# Altium footprint library surfacemountresarray.PcbLib: 3 footprints
Each footprint in its own frame and in the unit in brackets; x right, y up, seen from the top. Pads: shape width x height; smd on the part's side, far side on the other; paste and mask are expansions set on the pad; w line width, h text height; cw(c..) or ccw(c..) is an arc to the next point about the centre after c.
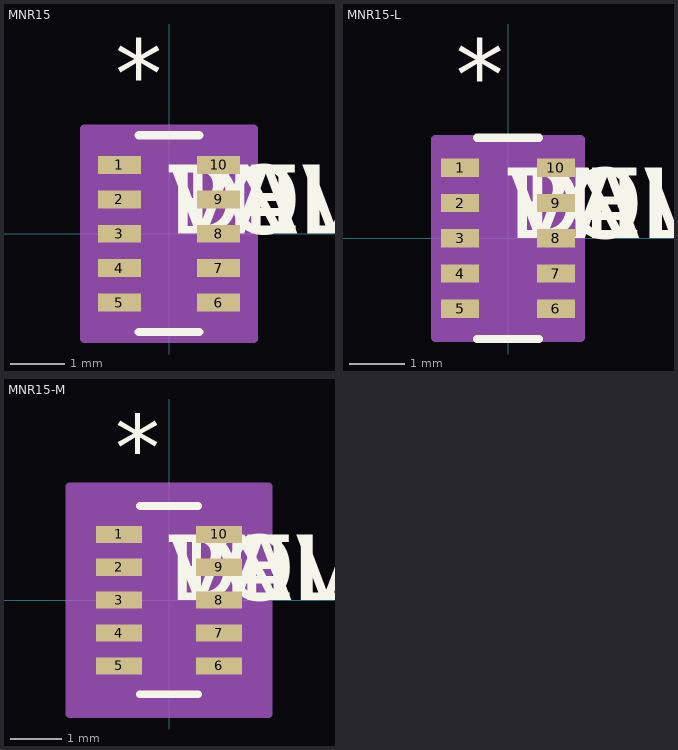
[diagram p0: the footprints below, top view; thin cyan lines are the x and y axes]

## MNR15 [mil]
pads (10):
  rect 31x13 smd paste+0 mask+0: 1(-36,50) 2(-36,25) 3(-36,0) 4(-36,-25) 5(-36,-50) 6(36,-50) 7(36,-25) 8(36,0) 9(36,25) 10(36,50)
Top Overlay:
  lines w6: -22,-71.5 22,-71.5 ; -22,71.5 22,71.5
  text "*" at -39,91.5 h50
  text "PN" at 0,0 h50
  text "DEV" at 0,0 h50
  text "VAL" at 0,0 h50
  text "TOL" at 0,0 h50
Mechanical 13:
  lines w0: -17,-43.5 ccw(c-17,-37.5) -17,-31.5 ; -17,-18.5 ccw(c-17,-12.5) -17,-6.5 ; -17,6.5 ccw(c-17,12.5) -17,18.5 ; -17,31.5 ccw(c-17,37.5) -17,43.5 ; 17,-43.5 cw(c17,-37.5) 17,-31.5 ; 17,-18.5 cw(c17,-12.5) 17,-6.5 ; 17,6.5 cw(c17,12.5) 17,18.5 ; 17,31.5 cw(c17,37.5) 17,43.5
  lines w1: -17,-43.5 -17,-56.5 -17,-66.5 17,-66.5 17,-56.5 17,-43.5 ; -17,-31.5 -17,-18.5 ; -17,-6.5 -17,6.5 ; -17,18.5 -17,31.5 ; -17,43.5 -17,56.5 -17,66.5 17,66.5 17,56.5 17,43.5 ; 17,-31.5 17,-18.5 ; 17,-6.5 17,6.5 ; 17,18.5 17,31.5
  text "*" at -7,76.5 h50
  text "RefDes2" at 0,0 h50
Mechanical 15:
  region: 61.5,-76.5 -61.5,-76.5 -61.5,76.5 61.5,76.5
  region: 17,-66.5 -17,-66.5 -17,66.5 17,66.5
  lines w6: -61.5,-76.5 -61.5,76.5 61.5,76.5 61.5,-76.5 -61.5,-76.5
3D body: height 10, standoff 0, extent 0,0 10,10

## MNR15-L [mil]
pads (10):
  rect 27x13 smd paste+0 mask+0: 1(-34,50) 2(-34,25) 3(-34,0) 4(-34,-25) 5(-34,-50) 6(34,-50) 7(34,-25) 8(34,0) 9(34,25) 10(34,50)
Top Overlay:
  lines w6: -22,-71.5 22,-71.5 ; -22,71.5 22,71.5
  text "*" at -37,91.5 h50
  text "PN" at 0,0 h50
  text "DEV" at 0,0 h50
  text "VAL" at 0,0 h50
  text "TOL" at 0,0 h50
Mechanical 13:
  lines w0: -17,-43.5 ccw(c-17,-37.5) -17,-31.5 ; -17,-18.5 ccw(c-17,-12.5) -17,-6.5 ; -17,6.5 ccw(c-17,12.5) -17,18.5 ; -17,31.5 ccw(c-17,37.5) -17,43.5 ; 17,-43.5 cw(c17,-37.5) 17,-31.5 ; 17,-18.5 cw(c17,-12.5) 17,-6.5 ; 17,6.5 cw(c17,12.5) 17,18.5 ; 17,31.5 cw(c17,37.5) 17,43.5
  lines w1: -17,-43.5 -17,-56.5 -17,-66.5 17,-66.5 17,-56.5 17,-43.5 ; -17,-31.5 -17,-18.5 ; -17,-6.5 -17,6.5 ; -17,18.5 -17,31.5 ; -17,43.5 -17,56.5 -17,66.5 17,66.5 17,56.5 17,43.5 ; 17,-31.5 17,-18.5 ; 17,-6.5 17,6.5 ; 17,18.5 17,31.5
  text "*" at -7,76.5 h50
  text "RefDes2" at 0,0 h50
Mechanical 15:
  region: 51.5,-70.5 -51.5,-70.5 -51.5,70.5 51.5,70.5
  region: 17,-66.5 -17,-66.5 -17,66.5 17,66.5
  lines w6: -51.5,-70.5 -51.5,70.5 51.5,70.5 51.5,-70.5 -51.5,-70.5
3D body: height 10, standoff 0, extent 0,0 10,10

## MNR15-M [mil]
pads (10):
  rect 35x13 smd paste+0 mask+0: 1(-38,50) 2(-38,25) 3(-38,0) 4(-38,-25) 5(-38,-50) 6(38,-50) 7(38,-25) 8(38,0) 9(38,25) 10(38,50)
Top Overlay:
  lines w6: -22,-71.5 22,-71.5 ; -22,71.5 22,71.5
  text "*" at -41,91.5 h50
  text "PN" at 0,0 h50
  text "DEV" at 0,0 h50
  text "VAL" at 0,0 h50
  text "TOL" at 0,0 h50
Mechanical 13:
  lines w0: -17,-43.5 ccw(c-17,-37.5) -17,-31.5 ; -17,-18.5 ccw(c-17,-12.5) -17,-6.5 ; -17,6.5 ccw(c-17,12.5) -17,18.5 ; -17,31.5 ccw(c-17,37.5) -17,43.5 ; 17,-43.5 cw(c17,-37.5) 17,-31.5 ; 17,-18.5 cw(c17,-12.5) 17,-6.5 ; 17,6.5 cw(c17,12.5) 17,18.5 ; 17,31.5 cw(c17,37.5) 17,43.5
  lines w1: -17,-43.5 -17,-56.5 -17,-66.5 17,-66.5 17,-56.5 17,-43.5 ; -17,-31.5 -17,-18.5 ; -17,-6.5 -17,6.5 ; -17,18.5 -17,31.5 ; -17,43.5 -17,56.5 -17,66.5 17,66.5 17,56.5 17,43.5 ; 17,-31.5 17,-18.5 ; 17,-6.5 17,6.5 ; 17,18.5 17,31.5
  text "*" at -7,76.5 h50
  text "RefDes2" at 0,0 h50
Mechanical 15:
  region: 75.5,-86.5 -75.5,-86.5 -75.5,86.5 75.5,86.5
  region: 17,-66.5 -17,-66.5 -17,66.5 17,66.5
  lines w6: -75.5,-86.5 -75.5,86.5 75.5,86.5 75.5,-86.5 -75.5,-86.5
3D body: height 10, standoff 0, extent 0,0 10,10